# Altium schematic symbol library CL5621AH.SchLib: 1 symbol
Pins are listed as number, name and electrical type; pins without a type are passive.

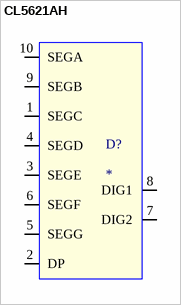
[diagram p0: symbol CL5621AH]

## CL5621AH
designator D?
7 Segment Display 0.56" / Case size 25mmx19x8; Manufacturer: XLITX TECHNOLOGY; Model Number: 5621AH
footprint CL5621AH (7 Segment DIsplay 10 Pin Common Cathode)
pins: 1 SEGC, 2 DP, 3 SEGE, 4 SEGD, 5 SEGG, 6 SEGF, 7 DIG2, 8 DIG1, 9 SEGB, 10 SEGA